# Altium schematic symbol library TMP117MAIDRVR.SchLib: 1 symbol
Pins are listed as number, name and electrical type; pins without a type are passive.

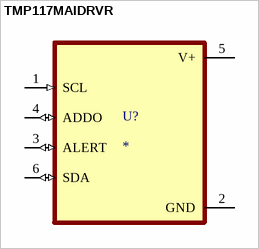
[diagram p0: symbol TMP117MAIDRVR]

## TMP117MAIDRVR
designator U?
0.1Â°C digital temperature sensor, 48-bit EEPROM, PT100/PT1000 RTD replacement; MF: Texas Instruments; MP: TMP117MAIDRVR; SnapEDA_Link: https://www.snapeda.com/parts/TMP117MAIDRVR/Texas+Instruments/view-part/?ref=snap; Package: WSON-6 Texas Instruments; Value: *; Check_prices: https://www.snapeda.com/parts/TMP117MAIDRVR/Texas+Instruments/view-part/?ref=eda
footprint SON65P200X200X80-7N
pins: 1 SCL (in), 2 GND (power), 3 ALERT (io), 4 ADDO (io), 5 V+ (power), 6 SDA (io)